# Altium schematic symbol library Schlib1_3.SchLib: 9 symbols
Pins are listed as number, name and electrical type; pins without a type are passive.

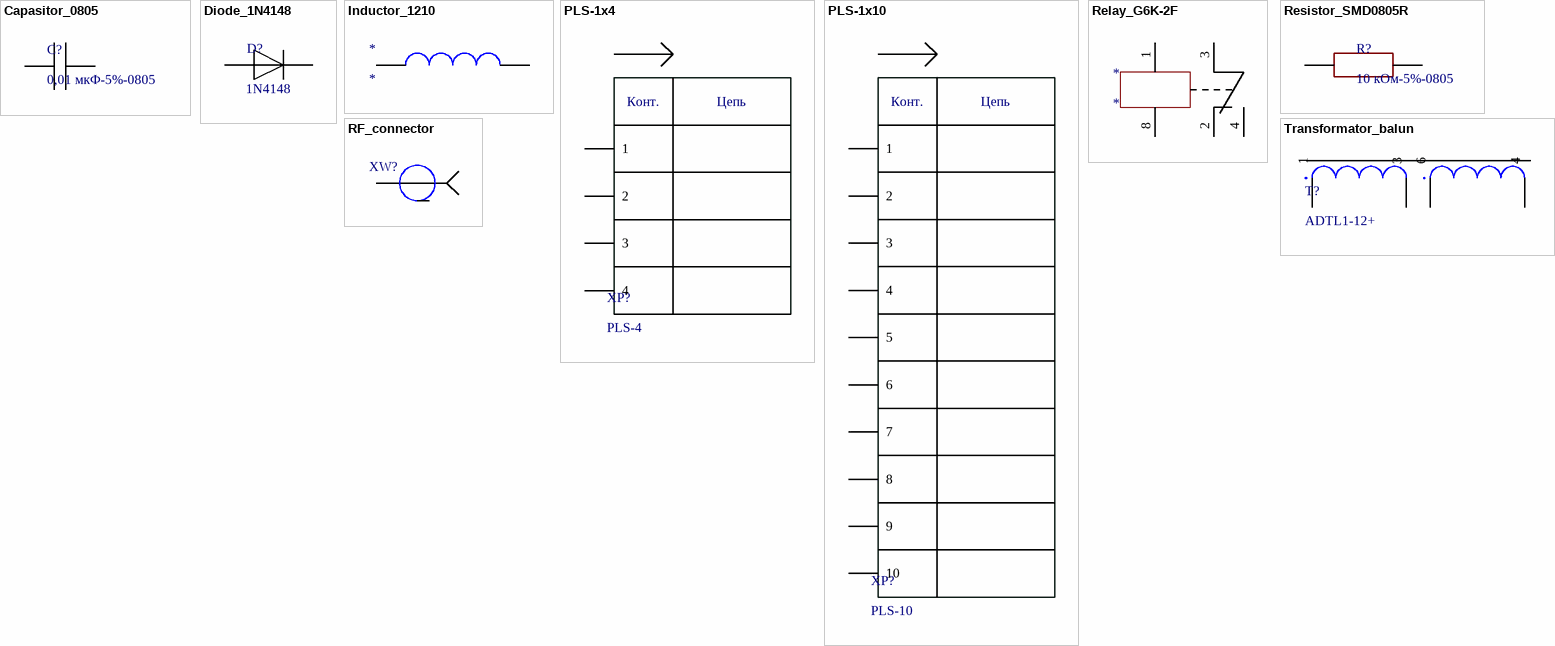
[diagram p0: symbols Capasitor_0805 to Transformator_balun]

## Capasitor_0805
designator C?, comment 0,01 мкФ-5%-0805
Href: *; PartNumber: *; Manufacturer: *
footprint Capacitor_0805
pins: 0, 1

## Diode_1N4148
designator D?, comment 1N4148
Manufacturer: *; Href: *; PartNumber: *; Value: 1N4148
pins: 1, 2

## Inductor_1210
designator *
footprint Inductor_1210L
pins: 1, 2

## PLS-1x4
designator XP?, comment PLS-4
PartNumber: DS-1021-1x4SF11-B; Href: https://www.chipdip.ru/product/pls-4?utm_source=direct&utm_medium=cpc&utm_campaign=Y_dinamicheskaya&utm_content=text1_ya&utm_term=---autotargeting&position_type=premium&yclid=14280046024007876607
footprint PLS-1x4
pins: 1, 2, 3, 4
text: Конт.; Цепь

## PLS-1x10
designator XP?, comment PLS-10
PartNumber: DS1021-1X10SF11-B; Href: https://www.chipdip.ru/product0/8028547026
footprint PLS-1x10
pins: 1, 2, 3, 4, 5, 6, 7, 8, 9, 10
text: Конт.; Цепь

## Relay_G6K-2F
designator *
footprint Relay_G6K-2F
pins: 1 plus, 2, 3, 4, 8 minus

## Resistor_SMD0805R
designator R?, comment 10 кОм-5%-0805
Manufacterer: *; Href: *; PartNumber: *
footprint Resistor_SMD0805R
pins: 0, 1

## RF_connector
designator XW?  (value not drawn)
PartNumber: L-KLS1-SMA001; Manufecturer: KLS electronic co ltd; Href: https://www.chipdip.ru/product/kls1-sma001
footprint RF_connector
pins: 1, 2

## Transformator_balun
designator T?, comment ADTL1-12+
footprint Transformator
pins: 1, 3, 4, 6